# Altium footprint library SamacSys.PcbLib: 33 footprints (part 1 of 3)
Each footprint in its own frame and in the unit in brackets; x right, y up, seen from the top. Pads: shape width x height; smd on the part's side, far side on the other; paste and mask are expansions set on the pad; w line width, h text height; cw(c..) or ccw(c..) is an arc to the next point about the centre after c.
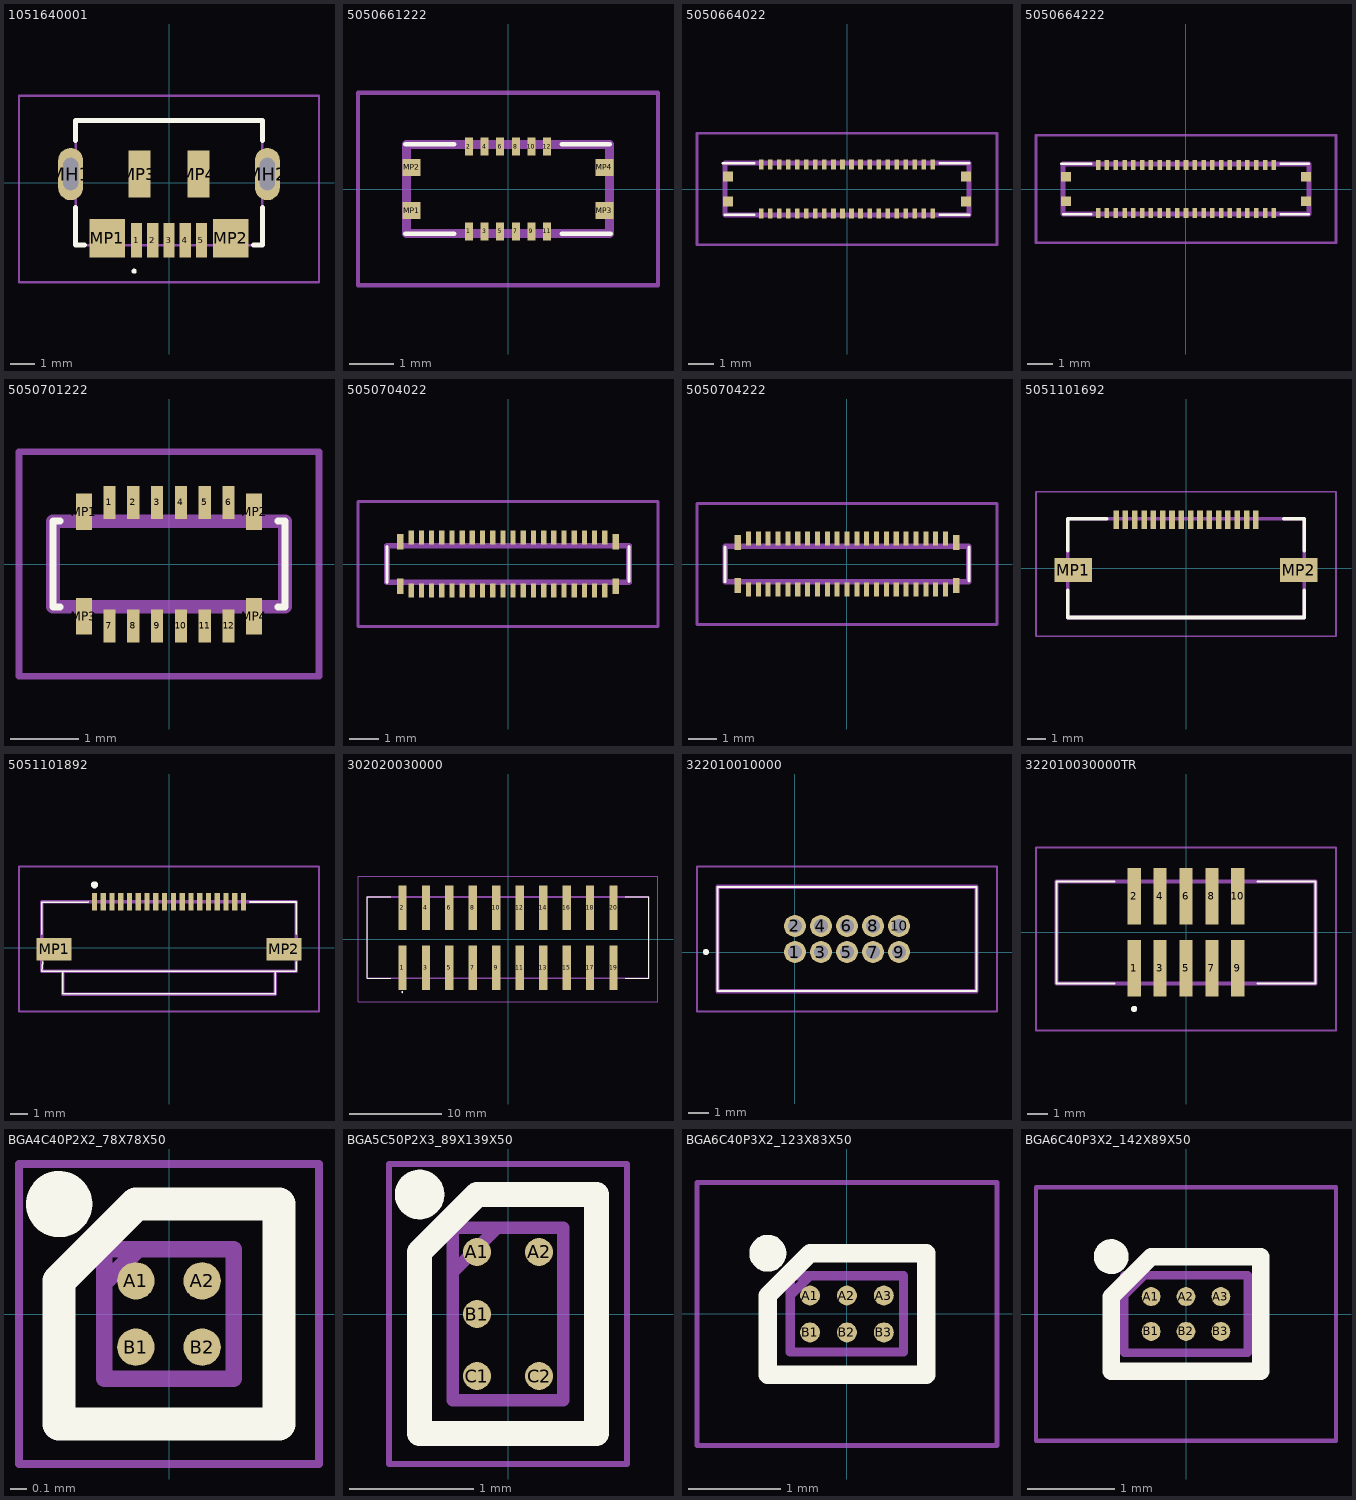
[diagram p0: the footprints below, top view; thin cyan lines are the x and y axes]

## 1051640001 [mm]
pads (11):
  rect 0.45x1.38 smd: 1(-1.3,-2.31) 2(-0.65,-2.31) 3(0,-2.31) 4(0.65,-2.31) 5(1.3,-2.31)
  oval 1x2.1 hole 0.6 slot 1.3 at 90 deg mask+0.102: MH1(-3.95,0.35) MH2(3.95,0.35)
  rect 1.425x1.55 smd: MP1(-2.487,-2.225) MP2(2.487,-2.225)
  rect 0.875x1.9 smd: MP3(-1.188,0.35) MP4(1.188,0.35)
Top Overlay:
  lines w0.1: -1.4,-3.6 ccw(c-1.4,-3.55) -1.4,-3.5 ccw(c-1.4,-3.55) -1.4,-3.6
  lines w0.2: -3.75,-1 -3.75,-2.5 -3.4,-2.5 ; -3.75,1.7 -3.75,2.5 3.75,2.5 3.75,1.7 ; 3.4,-2.5 3.75,-2.5 3.75,-1
Mechanical 13:
  lines w0.1: -3.75,-2.5 3.75,-2.5 3.75,2.5 -3.75,2.5 -3.75,-2.5
Mechanical 15:
  lines w0.1: -6.022,-4 6.022,-4 6.022,3.5 -6.022,3.5 -6.022,-4
3D body "105164-0001.stp": height 2.56, standoff -0.69, extent -4.1,-2.82 4.1,2.33

## 5050661222 [mm]
pads (16):
  rect 0.18x0.4 smd: 1(-0.875,-0.95) 2(-0.875,0.95) 3(-0.525,-0.95) 4(-0.525,0.95) 5(-0.175,-0.95) 6(-0.175,0.95) 7(0.175,-0.95) 8(0.175,0.95) 9(0.525,-0.95) 10(0.525,0.95) 11(0.875,-0.95) 12(0.875,0.95)
  rect 0.4x0.385 smd: MP1(-2.155,-0.482) MP2(-2.155,0.482) MP3(2.155,-0.482) MP4(2.155,0.482)
Top Overlay:
  lines w0.1: -2.3,-1 -1.2,-1 ; -2.3,1 -1.2,1 ; 1.2,-1 2.3,-1 ; 1.2,1 2.275,1
Mechanical 13:
  lines w0.2: -2.275,-1 -2.275,1 2.275,1 2.275,-1 -2.275,-1
Mechanical 15:
  lines w0.1: -3.355,-2.15 -3.355,2.15 3.355,2.15 3.355,-2.15 -3.355,-2.15
3D body "505066-1222.stp": height 0.56, standoff -0.02, extent -2.275,-1 2.275,1

## 5050664022 [mm]
pads (44):
  rect 0.18x0.4 smd: 1(-3.325,-0.95) 2(-3.325,0.95) 3(-2.975,-0.95) 4(-2.975,0.95) 5(-2.625,-0.95) 6(-2.625,0.95) 7(-2.275,-0.95) 8(-2.275,0.95) 9(-1.925,-0.95) 10(-1.925,0.95) 11(-1.575,-0.95) 12(-1.575,0.95) 13(-1.225,-0.95) 14(-1.225,0.95) 15(-0.875,-0.95) 16(-0.875,0.95) 17(-0.525,-0.95) 18(-0.525,0.95) 19(-0.175,-0.95) 20(-0.175,0.95) 21(0.175,-0.95) 22(0.175,0.95) 23(0.525,-0.95) 24(0.525,0.95) 25(0.875,-0.95) 26(0.875,0.95) 27(1.225,-0.95) 28(1.225,0.95) 29(1.575,-0.95) 30(1.575,0.95) 31(1.925,-0.95) 32(1.925,0.95) 33(2.275,-0.95) 34(2.275,0.95) 35(2.625,-0.95) 36(2.625,0.95) 37(2.975,-0.95) 38(2.975,0.95) 39(3.325,-0.95) 40(3.325,0.95)
  rect 0.4x0.385 smd: MP1(-4.605,-0.482) MP2(-4.605,0.482) MP3(4.605,-0.482) MP4(4.605,0.482)
Top Overlay:
  lines w0.1: -4.8,1 -3.6,1 ; -4.725,-1 -3.6,-1 ; 3.6,-1 4.725,-1 ; 3.6,1 4.725,1
Mechanical 13:
  lines w0.2: -4.725,-1 4.725,-1 4.725,1 -4.725,1 -4.725,-1
Mechanical 15:
  lines w0.1: -5.805,-2.15 5.805,-2.15 5.805,2.15 -5.805,2.15 -5.805,-2.15
3D body "505066-4022.stp": height 0.58, standoff 0, extent -4.725,-1 4.725,1

## 5050664222 [mm]
pads (46):
  rect 0.18x0.4 smd: 1(-3.5,-0.95) 2(-3.5,0.95) 3(-3.15,-0.95) 4(-3.15,0.95) 5(-2.8,-0.95) 6(-2.8,0.95) 7(-2.45,-0.95) 8(-2.45,0.95) 9(-2.1,-0.95) 10(-2.1,0.95) 11(-1.75,-0.95) 12(-1.75,0.95) 13(-1.4,-0.95) 14(-1.4,0.95) 15(-1.05,-0.95) 16(-1.05,0.95) 17(-0.7,-0.95) 18(-0.7,0.95) 19(-0.35,-0.95) 20(-0.35,0.95) 21(0,-0.95) 22(0,0.95) 23(0.35,-0.95) 24(0.35,0.95) 25(0.7,-0.95) 26(0.7,0.95) 27(1.05,-0.95) 28(1.05,0.95) 29(1.4,-0.95) 30(1.4,0.95) 31(1.75,-0.95) 32(1.75,0.95) 33(2.1,-0.95) 34(2.1,0.95) 35(2.45,-0.95) 36(2.45,0.95) 37(2.8,-0.95) 38(2.8,0.95) 39(3.15,-0.95) 40(3.15,0.95) 41(3.5,-0.95) 42(3.5,0.95)
  rect 0.4x0.385 smd: MP1(-4.78,-0.482) MP2(-4.78,0.482) MP3(4.78,-0.482) MP4(4.78,0.482)
Top Overlay:
  lines w0.1: -4.975,1 -3.775,1 ; -4.9,-1 -3.775,-1 ; 3.775,-1 4.9,-1 ; 3.775,1 4.9,1
Mechanical 13:
  lines w0.2: -4.9,-1 -4.9,1 4.9,1 4.9,-1 -4.9,-1
Mechanical 15:
  lines w0.1: -5.98,-2.15 -5.98,2.15 5.98,2.15 5.98,-2.15 -5.98,-2.15
3D body "5050664222.stp": height 0.59, standoff 0.01, extent -4.9,-1 4.9,1

## 5050701222 [mm]
pads (16):
  rect 0.18x0.485 smd: 1(-0.875,0.907) 2(-0.525,0.907) 3(-0.175,0.907) 4(0.175,0.907) 5(0.525,0.907) 6(0.875,0.907) 7(-0.875,-0.908) 8(-0.525,-0.908) 9(-0.175,-0.908) 10(0.175,-0.908) 11(0.525,-0.908) 12(0.875,-0.908)
  rect 0.23x0.535 smd: MP1(-1.25,0.768) MP2(1.25,0.768) MP3(-1.25,-0.768) MP4(1.25,-0.768)
Top Overlay:
  lines w0.1: -1.6,-0.63 -1.705,-0.63 -1.705,0.63 -1.6,0.63 ; 1.6,-0.63 1.705,-0.63 1.705,0.63 1.6,0.63
Mechanical 13:
  lines w0.2: -1.705,-0.63 -1.705,0.63 1.705,0.63 1.705,-0.63 -1.705,-0.63
Mechanical 15:
  lines w0.1: -2.205,-1.65 -2.205,1.65 2.205,1.65 2.205,-1.65 -2.205,-1.65
3D body "505070-1222.stp": height 0.48, standoff 0, extent -1.705,-1 1.705,1

## 5050704022 [mm]
pads (44):
  rect 0.18x0.485 smd: 1(-3.325,-0.907) 2(-3.325,0.907) 3(-2.975,-0.907) 4(-2.975,0.907) 5(-2.625,-0.907) 6(-2.625,0.907) 7(-2.275,-0.907) 8(-2.275,0.907) 9(-1.925,-0.907) 10(-1.925,0.907) 11(-1.575,-0.907) 12(-1.575,0.907) 13(-1.225,-0.907) 14(-1.225,0.907) 15(-0.875,-0.907) 16(-0.875,0.907) 17(-0.525,-0.907) 18(-0.525,0.907) 19(-0.175,-0.907) 20(-0.175,0.907) 21(0.175,-0.907) 22(0.175,0.907) 23(0.525,-0.907) 24(0.525,0.907) 25(0.875,-0.907) 26(0.875,0.907) 27(1.225,-0.907) 28(1.225,0.907) 29(1.575,-0.907) 30(1.575,0.907) 31(1.925,-0.907) 32(1.925,0.907) 33(2.275,-0.907) 34(2.275,0.907) 35(2.625,-0.907) 36(2.625,0.907) 37(2.975,-0.907) 38(2.975,0.907) 39(3.325,-0.907) 40(3.325,0.907)
  rect 0.23x0.535 smd: MP1(-3.7,-0.768) MP2(3.7,-0.768) MP3(3.7,0.768) MP4(-3.7,0.768)
Top Overlay:
  lines w0.1: -4.155,-0.63 -4.155,0.6 ; 4.155,-0.6 4.155,0.6
Mechanical 13:
  lines w0.2: -4.155,-0.63 -4.155,0.63 4.155,0.63 4.155,-0.63 -4.155,-0.63
Mechanical 15:
  lines w0.1: -5.155,-2.15 -5.155,2.15 5.155,2.15 5.155,-2.15 -5.155,-2.15
3D body "505070-4022.stp": height 0.48, standoff 0, extent -4.155,-1 4.155,1

## 5050704222 [mm]
pads (46):
  rect 0.18x0.485 smd: 1(-3.5,-0.907) 2(-3.5,0.907) 3(-3.15,-0.907) 4(-3.15,0.907) 5(-2.8,-0.907) 6(-2.8,0.907) 7(-2.45,-0.907) 8(-2.45,0.907) 9(-2.1,-0.907) 10(-2.1,0.907) 11(-1.75,-0.907) 12(-1.75,0.907) 13(-1.4,-0.907) 14(-1.4,0.907) 15(-1.05,-0.907) 16(-1.05,0.907) 17(-0.7,-0.907) 18(-0.7,0.907) 19(-0.35,-0.907) 20(-0.35,0.907) 21(0,-0.907) 22(0,0.907) 23(0.35,-0.907) 24(0.35,0.907) 25(0.7,-0.907) 26(0.7,0.907) 27(1.05,-0.907) 28(1.05,0.907) 29(1.4,-0.907) 30(1.4,0.907) 31(1.75,-0.907) 32(1.75,0.907) 33(2.1,-0.907) 34(2.1,0.907) 35(2.45,-0.907) 36(2.45,0.907) 37(2.8,-0.907) 38(2.8,0.907) 39(3.15,-0.907) 40(3.15,0.907) 41(3.5,-0.907) 42(3.5,0.907)
  rect 0.23x0.535 smd: MP1(-3.875,-0.768) MP2(3.875,-0.768) MP3(3.875,0.768) MP4(-3.875,0.768)
Top Overlay:
  lines w0.1: -4.33,-0.63 -4.33,0.6 ; 4.33,-0.6 4.33,0.6
Mechanical 13:
  lines w0.2: -4.33,-0.63 4.33,-0.63 4.33,0.63 -4.33,0.63 -4.33,-0.63
Mechanical 15:
  lines w0.1: -5.33,-2.15 5.33,-2.15 5.33,2.15 -5.33,2.15 -5.33,-2.15
3D body "5050704222.stp": height 0.49, standoff 0.01, extent -4.33,-1 4.33,1

## 5051101692 [mm]
pads (18):
  rect 0.3x1 smd: 1(-3.75,2.6) 2(-3.25,2.6) 3(-2.75,2.6) 4(-2.25,2.6) 5(-1.75,2.6) 6(-1.25,2.6) 7(-0.75,2.6) 8(-0.25,2.6) 9(0.25,2.6) 10(0.75,2.6) 11(1.25,2.6) 12(1.75,2.6) 13(2.25,2.6) 14(2.75,2.6) 15(3.25,2.6) 16(3.75,2.6)
  rect 2x1.3 smd: MP1(-6.05,-0.1) MP2(6.05,-0.1)
Top Overlay:
  lines w0.2: -6.35,-1.197 -6.35,-2.65 6.35,-2.65 6.35,-1.197 ; -6.35,0.945 -6.35,2.65 -4.252,2.65 ; 5.252,2.65 6.35,2.65 6.35,0.945
Mechanical 13:
  lines w0.2: -6.35,-2.65 -6.35,2.65 6.35,2.65 6.35,-2.65 -6.35,-2.65
Mechanical 15:
  lines w0.1: -8.05,-3.65 -8.05,4.1 8.05,4.1 8.05,-3.65 -8.05,-3.65
3D body "505110-1692.stp": height 1.9, standoff 0, extent -6.75,-2.43 6.75,2.87

## 5051101892 [mm]
pads (20):
  rect 0.3x1 smd: 1(-4.25,2.625) 2(-3.75,2.625) 3(-3.25,2.625) 4(-2.75,2.625) 5(-2.25,2.625) 6(-1.75,2.625) 7(-1.25,2.625) 8(-0.75,2.625) 9(-0.25,2.625) 10(0.25,2.625) 11(0.75,2.625) 12(1.25,2.625) 13(1.75,2.625) 14(2.25,2.625) 15(2.75,2.625) 16(3.25,2.625) 17(3.75,2.625) 18(4.25,2.625)
  rect 2x1.3 smd: MP1(-6.55,-0.075) MP2(6.55,-0.075)
Top Overlay:
  lines w0.1: -7.25,0.8 -7.25,2.6 -4.6,2.625 ; -7.2,-0.8 -7.25,-1.325 7.25,-1.325 7.25,-0.8 ; -6.05,-1.4 -6.05,-2.6 6.05,-2.625 6.05,-1.325 ; 4.6,2.625 7.25,2.625 7.25,0.8
  lines w0.3: -4.3,3.6 ccw(c-4.25,3.6) -4.2,3.6 ccw(c-4.25,3.6) -4.3,3.6
Mechanical 13:
  lines w0.2: -6.05,-1.375 -6.05,-2.625 6.05,-2.625 6.05,-1.375 ; -7.25,-1.325 -7.25,2.625 7.25,2.625 7.25,-1.325 -7.25,-1.325
Mechanical 15:
  lines w0.1: -8.55,-3.625 -8.55,4.65 8.55,4.65 8.55,-3.625 -8.55,-3.625
3D body "505110-1892.stp": height 1.9, standoff 0, extent -7.25,-2.37 7.25,2.93

## 302020030000 [mm]
pads (20):
  rect 0.89x4.8 smd: 1(-11.43,-3.1) 2(-11.43,3.4) 3(-8.89,-3.1) 4(-8.89,3.4) 5(-6.35,-3.1) 6(-6.35,3.4) 7(-3.81,-3.1) 8(-3.81,3.4) 9(-1.27,-3.1) 10(-1.27,3.4) 11(1.27,-3.1) 12(1.27,3.4) 13(3.81,-3.1) 14(3.81,3.4) 15(6.35,-3.1) 16(6.35,3.4) 17(8.89,-3.1) 18(8.89,3.4) 19(11.43,-3.1) 20(11.43,3.4)
Top Overlay:
  lines w0.1: -12.7,-4.25 -15.24,-4.25 -15.24,4.55 -12.7,4.55 ; 12.7,-4.25 15.24,-4.25 15.24,4.55 12.7,4.55 ; -11.5,-5.75 ccw(c-11.45,-5.75) -11.4,-5.75 ccw(c-11.45,-5.75) -11.5,-5.75
Mechanical 13:
  lines w0.2: -15.24,-4.25 -15.24,4.55 15.24,4.55 15.24,-4.25 -15.24,-4.25
Mechanical 15:
  lines w0.1: -16.24,-6.8 -16.24,6.8 16.24,6.8 16.24,-6.8 -16.24,-6.8
3D body "72454-020lf.stp": height 12.59, standoff 0.01, extent -16.383,-4.381 16.383,4.381

## 322010010000 [mm]
pads (10):
  round 1.07 hole 0.7: 1(0,0) 2(0,1.27) 3(1.27,0) 4(1.27,1.27) 5(2.54,0) 6(2.54,1.27) 7(3.81,0) 8(3.81,1.27) 9(5.08,0) 10(5.08,1.27)
Top Overlay:
  lines w0.1: -3.785,-1.915 8.865,-1.915 8.865,3.185 -3.785,3.185 -3.785,-1.915
  lines w0.2: -4.4,0 cw(c-4.35,0) -4.3,0 ; -4.4,0 ccw(c-4.35,0) -4.3,0 ; -4.4,0 cw(c-4.35,0) -4.3,0
Mechanical 13:
  lines w0.2: -3.785,-1.915 8.865,-1.915 8.865,3.185 -3.785,3.185 -3.785,-1.915
Mechanical 15:
  lines w0.1: -4.785,-2.915 9.865,-2.915 9.865,4.185 -4.785,4.185 -4.785,-2.915
3D body "3220-10-0100-00.stp": height 5.63, standoff -1.92, extent -3.866,-1.99 8.946,3.254

## 322010030000TR [mm]
pads (10):
  rect 0.65x2.77 smd: 1(-2.54,-1.765) 2(-2.54,1.765) 3(-1.27,-1.765) 4(-1.27,1.765) 5(0,-1.765) 6(0,1.765) 7(1.27,-1.765) 8(1.27,1.765) 9(2.54,-1.765) 10(2.54,1.765)
Top Overlay:
  lines w0.1: -6.35,-2.5 -3.5,-2.5 -6.35,-2.5 ; -6.35,-2.5 -6.35,2.5 ; -6.35,-2.5 -6.35,2.5 ; -6.35,2.5 -3.5,2.5 -6.35,2.5 ; 6.35,-2.5 6.35,2.5 ; 6.35,-2.5 6.35,2.5 ; 6.35,-2.5 3.5,-2.5 6.35,-2.5 ; 6.35,2.5 3.5,2.5 6.35,2.5
  lines w0.2: -2.54,-3.8 cw(c-2.54,-3.75) -2.54,-3.7 ; -2.54,-3.8 ccw(c-2.54,-3.75) -2.54,-3.7 ; -2.54,-3.8 cw(c-2.54,-3.75) -2.54,-3.7
Mechanical 13:
  lines w0.2: -6.35,-2.5 -6.35,2.5 6.35,2.5 6.35,-2.5 -6.35,-2.5
Mechanical 15:
  lines w0.1: -7.35,-4.8 -7.35,4.15 7.35,4.15 7.35,-4.8 -7.35,-4.8
3D body "3220-10-0300-00.STEP": height 5.61, standoff 0.01, extent -6.325,-2.75 6.325,2.75

## BGA4C40P2X2_78X78X50 [mm]
pads (4):
  round 0.226 smd: A1(-0.2,0.2) A2(0.2,0.2) B1(-0.2,-0.2) B2(0.2,-0.2)
Top Overlay:
  circle w0.2: c-0.663,0.663 r0.1
  lines w0.2: -0.663,-0.663 -0.663,0.2 -0.2,0.663 0.663,0.663 0.663,-0.663 -0.663,-0.663
Mechanical 13:
  lines w0.1: -0.39,0.188 -0.188,0.39 ; -0.39,-0.39 -0.39,0.39 0.39,0.39 0.39,-0.39 -0.39,-0.39
Mechanical 15:
  lines w0.05: -0.905,-0.905 -0.905,0.905 0.905,0.905 0.905,-0.905 -0.905,-0.905
3D body "TPS22916CYFPR.stp": height 0.5, standoff 0, extent -0.39,-0.39 0.39,0.39

## BGA5C50P2X3_89X139X50 [mm]
pads (5):
  round 0.226 smd: A1(-0.25,0.5) A2(0.25,0.5) B1(-0.25,0) C1(-0.25,-0.5) C2(0.25,-0.5)
Top Overlay:
  circle w0.2: c-0.713,0.963 r0.1
  lines w0.2: -0.713,-0.963 -0.713,0.5 -0.25,0.963 0.713,0.963 0.713,-0.963 -0.713,-0.963
Mechanical 13:
  lines w0.1: -0.444,0.34 -0.09,0.694 ; -0.444,-0.694 -0.444,0.694 0.444,0.694 0.444,-0.694 -0.444,-0.694
Mechanical 15:
  lines w0.05: -0.959,-1.209 -0.959,1.209 0.959,1.209 0.959,-1.209 -0.959,-1.209
3D body "TS5A3167YZPR.stp": height 0.5, standoff 0, extent -0.444,-0.694 0.444,0.694

## BGA6C40P3X2_123X83X50 [mm]
pads (6):
  round 0.216 smd: A1(-0.4,0.2) A2(0,0.2) A3(0.4,0.2) B1(-0.4,-0.2) B2(0,-0.2) B3(0.4,-0.2)
Top Overlay:
  circle w0.2: c-0.858,0.658 r0.1
  lines w0.2: -0.858,-0.658 -0.858,0.2 -0.4,0.658 0.858,0.658 0.858,-0.658 -0.858,-0.658
Mechanical 13:
  lines w0.1: -0.614,0.201 -0.401,0.414 ; -0.614,-0.414 -0.614,0.414 0.614,0.414 0.614,-0.414 -0.614,-0.414
Mechanical 15:
  lines w0.05: -1.626,-1.427 -1.626,1.426 1.627,1.426 1.627,-1.427 -1.626,-1.427
3D body "MAX40023ANT+.stp": height 0.5, standoff 0, extent -0.614,-0.414 0.614,0.414

## BGA6C40P3X2_142X89X50 [mm]
pads (6):
  round 0.216 smd: A1(-0.4,0.2) A2(0,0.2) A3(0.4,0.2) B1(-0.4,-0.2) B2(0,-0.2) B3(0.4,-0.2)
Top Overlay:
  circle w0.2: c-0.858,0.658 r0.1
  lines w0.2: -0.858,-0.658 -0.858,0.2 -0.4,0.658 0.858,0.658 0.858,-0.658 -0.858,-0.658
Mechanical 13:
  lines w0.1: -0.708,0.216 -0.48,0.444 ; -0.708,-0.443 -0.708,0.444 0.709,0.444 0.709,-0.443 -0.708,-0.443
Mechanical 15:
  lines w0.05: -1.721,-1.456 -1.721,1.456 1.721,1.456 1.721,-1.456 -1.721,-1.456
3D body "MAX38643AENT+.stp": height 0.5, standoff 0, extent -0.708,-0.443 0.708,0.443